# EAGLE library part USB-4PIN (library GW-devices)
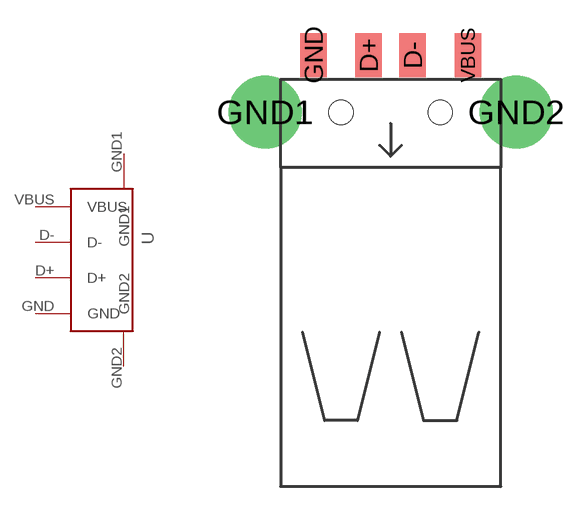
[diagram p15: symbol with the pads of USB-A-RA-SMT-MOLEX; footprint USB-A-RA-SMT-MOLEX]

Designator prefix -

## USB-4PIN-A-RA-SMT-MOLEX  [USB-A-RA-SMT-MOLEX]
D+  D+
D-  D-
GND  GND
GND1  GND1
GND2  GND2
VBUS  VBUS

## Footprint USB-A-RA-SMT-MOLEX (pad centres in mm)
smd 1.2 x 2: D+ -1,2.6; D- 1,2.6; GND -3.5,2.6; VBUS 3.5,2.6
drill 2.3: GND1 -5.7,0; GND2 5.7,0
hole 1.1 at -2.25,0
hole 1.1 at 2.25,0